# Altium schematic symbol library IPD079N06L3 G.SchLib: 1 symbol
Pins are listed as number, name and electrical type; pins without a type are passive.

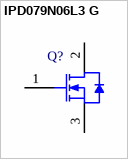
[diagram p0: symbol IPD079N06L3 G]

## IPD079N06L3 G
designator Q?
N-Channel OptiMOS 3 Power-Transistor, 60 V VDS, 50 A ID, -55 to 175 degC, PG-TO252-3-11, Reel, Green; Manufacturer: Infineon; PartNumber: IPD079N06L3 G; Green: TRUE; ID (max): 50 A; IDpuls (max): 200 A; Polarity: N; Ptot (max): 79 W; QG: 22 nC; RDS (on) (max): 7.9 mOhm; RDS (on) (max) (@4.5V): 13.5 mOhm; Rth: 1.9 K/W; RthJA (max): 62 K/W; RthJC (max): 1.9 K/W; VDS (max): 60 V; VGS(th) (max): 2.2 V; VGS(th) (min): 1.2 V; DatasheetVersion: Rev. 2.0; PackageVersion: Rev. 02, 03/2007; PackageReference: PG-TO252-3-11; PackageDescription: 3-Pin Plastic (Green) Transistor Single Outline Package, 6.57 x 6.1 mm Body, 2.29 mm Pitch; Supplier 1: Digi-Key; Supplier Part Number 1: IPD079N06L3 GTR-ND; Supplier 2: Digi-Key; Supplier Part Number 2: IPD079N06L3 GCT-ND; Supplier 3: Digi-Key; Supplier Part Number 3: IPD079N06L3 GDKR-ND; Supplier 4: Mouser; Supplier Part Number 4: 726-IPD079N06L3G; Packing: Reel; Mounting Technology: Surface Mount; ComponentLink1Description: Manufacturer URL; ComponentLink1URL: http://www.infineon.com/; ComponentLink2Description: Datasheet; ComponentLink2URL: http://www.infineon.com/dgdl/IPD079N06L3_Rev2.pdf?folderId=db3a30431441fb5d01148ca9f1be0e77&fileId=db3a30431ddc9372011e2b5528634dc0; ComponentLink3Description: Package Specification; ComponentLink3URL: http://www.infineon.com/dgdl/IPD160N04L_rev1.0.pdf?folderId=db3a3043163797a6011643468e7505a4&fileId=db3a3043163797a60116436401cf05cf
footprint INF-PG-TO252-3-11_A_N (DPAK, 3-Leads, Body 6.57x6.1mm, Pitch 2.29mm, IPC Medium Density)
footprint INF-PG-TO252-3-11_A_L (DPAK, 3-Leads, Body 6.57x6.1mm, Pitch 2.29mm, IPC High Density)
footprint INF-PG-TO252-3-11_A_M (DPAK, 3-Leads, Body 6.57x6.1mm, Pitch 2.29mm, IPC Low Density)
pins: 1 GATE, 2 DRAIN, 3 SOURCE